# Altium integrated library STM32H7xx CoreBoard AltiumDesigner.IntLib: 1 symbol
Pins are listed as number, name and electrical type; pins without a type are passive.

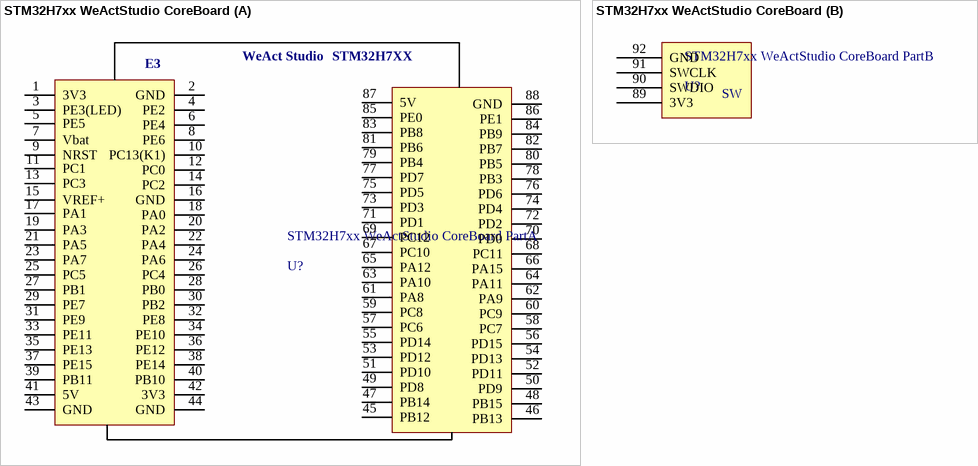
[diagram p0: symbol STM32H7xx WeActStudio CoreBoard]

## STM32H7xx WeActStudio CoreBoard
designator STM32H7xx WeActStudio CoreBoard Part, comment U?
footprint STM32H7xx Core Board (STM32H7xx Core Board By WeActStudio)
footprint STM32H7xx Core Board SMT (STM32H7xx Core Board By WeActStudio)
part A pins: 1 3V3, 2 GND, 3 PE3(LED), 4 PE2, 5 PE5, 6 PE4, 7 Vbat, 8 PE6, 9 NRST, 10 PC13(K1), 11 PC1, 12 PC0, 13 PC3, 14 PC2, 15 VREF+, 16 GND, 17 PA1, 18 PA0, 19 PA3, 20 PA2, 21 PA5, 22 PA4, 23 PA7, 24 PA6, 25 PC5, 26 PC4, 27 PB1, 28 PB0, 29 PE7, 30 PB2, 31 PE9, 32 PE8, 33 PE11, 34 PE10, 35 PE13, 36 PE12, 37 PE15, 38 PE14, 39 PB11, 40 PB10, 41 5V, 42 3V3, 43 GND, 44 GND, 45 PB12, 46 PB13, 47 PB14, 48 PB15, 49 PD8, 50 PD9, 51 PD10, 52 PD11, 53 PD12, 54 PD13, 55 PD14, 56 PD15, 57 PC6, 58 PC7, 59 PC8, 60 PC9, 61 PA8, 62 PA9, 63 PA10, 64 PA11, 65 PA12, 66 PA15, 67 PC10, 68 PC11, 69 PC12, 70 PD0, 71 PD1, 72 PD2, 73 PD3, 74 PD4, 75 PD5, 76 PD6, 77 PD7, 78 PB3, 79 PB4, 80 PB5, 81 PB6, 82 PB7, 83 PB8, 84 PB9, 85 PE0, 86 PE1, 87 5V, 88 GND
part B pins: 89 3V3, 90 SWDIO, 91 SWCLK, 92 GND
part A text: WeAct Studio; STM32H7XX; E3
part B text: SW